# EAGLE library part XBEE (library digital-toy)
XBEE connector
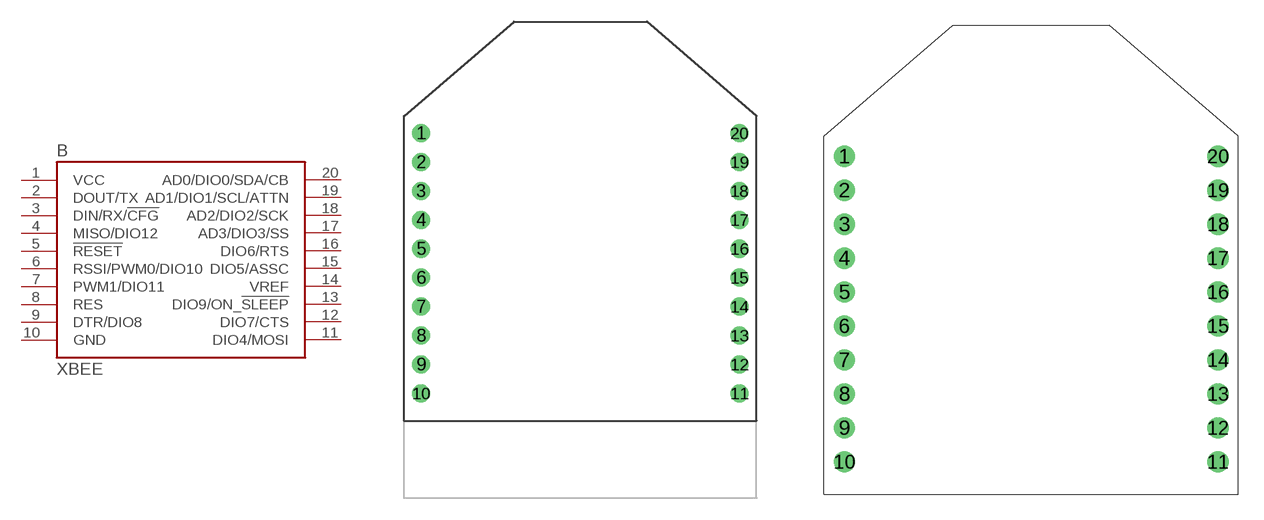
[diagram p52: symbol with the pads of XBEE_TP; footprints XBEE_TP, XBEE]

Designator prefix B

## XBEE-TP  [XBEE_TP]
1  VCC  pwr
2  DOUT/TX
3  DIN/RX/!CFG!
4  MISO/DIO12
5  !RESET!
6  RSSI/PWM0/DIO10
7  PWM1/DIO11
8  RES
9  DTR/DIO8
10  GND  pwr
11  DIO4/MOSI
12  DIO7/CTS
13  DIO9/ON_!SLEEP!
14  VREF
15  DIO5/ASSC
16  DIO6/RTS
17  AD3/DIO3/SS
18  AD2/DIO2/SCK
19  AD1/DIO1/SCL/ATTN
20  AD0/DIO0/SDA/CB

## XBEE  [XBEE]
Pads as for XBEE_TP

## Footprint XBEE_TP (pad centres in mm)
21 tPlace
drill 0.7 pad 1.25: 1 -11,9; 2 -11,7; 3 -11,5; 4 -11,3; 5 -11,1; 6 -11,-1; 7 -11,-3; 8 -11,-5; 9 -11,-7; 10 -11,-9; 11 11,-9; 12 11,-7; 13 11,-5; 14 11,-3; 15 11,-1; 16 11,1; 17 11,3; 18 11,5; 19 11,7; 20 11,9

## Footprint XBEE (pad centres in mm)
20 Dimension
drill 0.7 pad 1.25: 1 -11,9; 2 -11,7; 3 -11,5; 4 -11,3; 5 -11,1; 6 -11,-1; 7 -11,-3; 8 -11,-5; 9 -11,-7; 10 -11,-9; 11 11,-9; 12 11,-7; 13 11,-5; 14 11,-3; 15 11,-1; 16 11,1; 17 11,3; 18 11,5; 19 11,7; 20 11,9